# Altium schematic symbol library Connectors.SchLib: 11 symbols
Pins are listed as number, name and electrical type; pins without a type are passive.

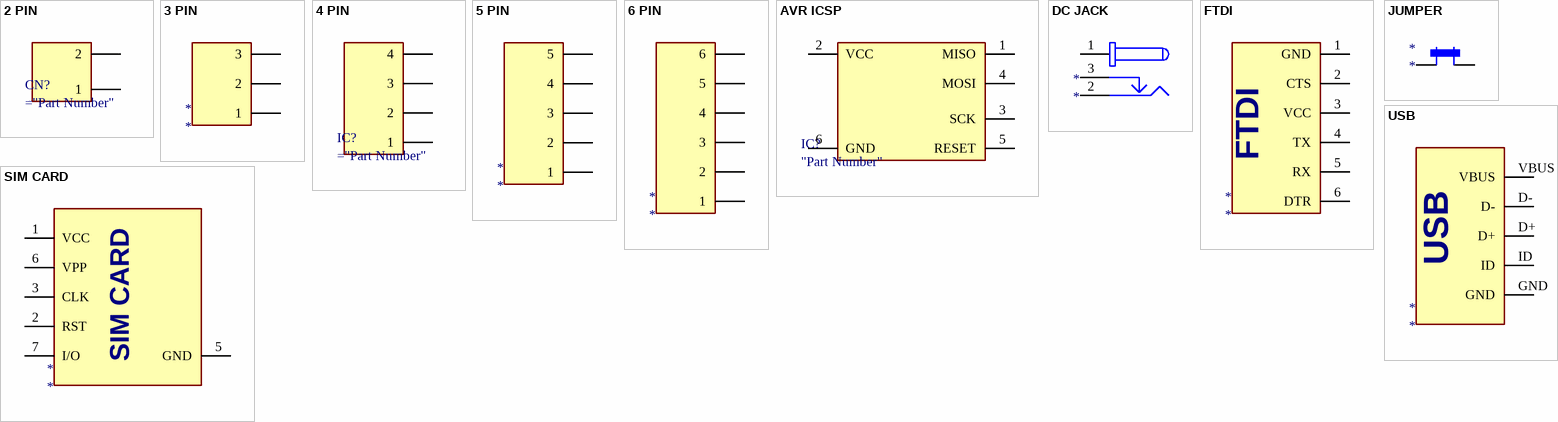
[diagram p0: symbols 2 PIN to USB]

## 2 PIN
designator CN?
pins: 1, 2

## 3 PIN
designator *
pins: 1, 2, 3

## 4 PIN
designator IC?
pins: 1, 2, 3, 4

## 5 PIN
designator *
pins: 1, 2, 3, 4, 5

## 6 PIN
designator *
pins: 1, 2, 3, 4, 5, 6

## AVR ICSP
designator IC?, comment "Part Number"
pins: 1 MISO, 2 VCC, 3 SCK, 4 MOSI, 5 RESET, 6 GND

## DC JACK
designator *
pins: 1 (power), 2 (power), 3 (power)

## FTDI
designator *
pins: 1 GND, 2 CTS, 3 VCC, 4 TX, 5 RX, 6 DTR

## JUMPER
designator *
pins: 1, 2

## SIM CARD
designator *
pins: 1 VCC, 2 RST, 3 CLK, 5 GND, 6 VPP, 7 I/O

## USB
designator *
pins: D+, D-, GND, ID, VBUS